# Altium footprint library CHIP_SMD.PcbLib: 26 footprints (part 2 of 2)
Each footprint in its own frame and in the unit in brackets; x right, y up, seen from the top. Pads: shape width x height; smd on the part's side, far side on the other; paste and mask are expansions set on the pad; w line width, h text height; cw(c..) or ccw(c..) is an arc to the next point about the centre after c.
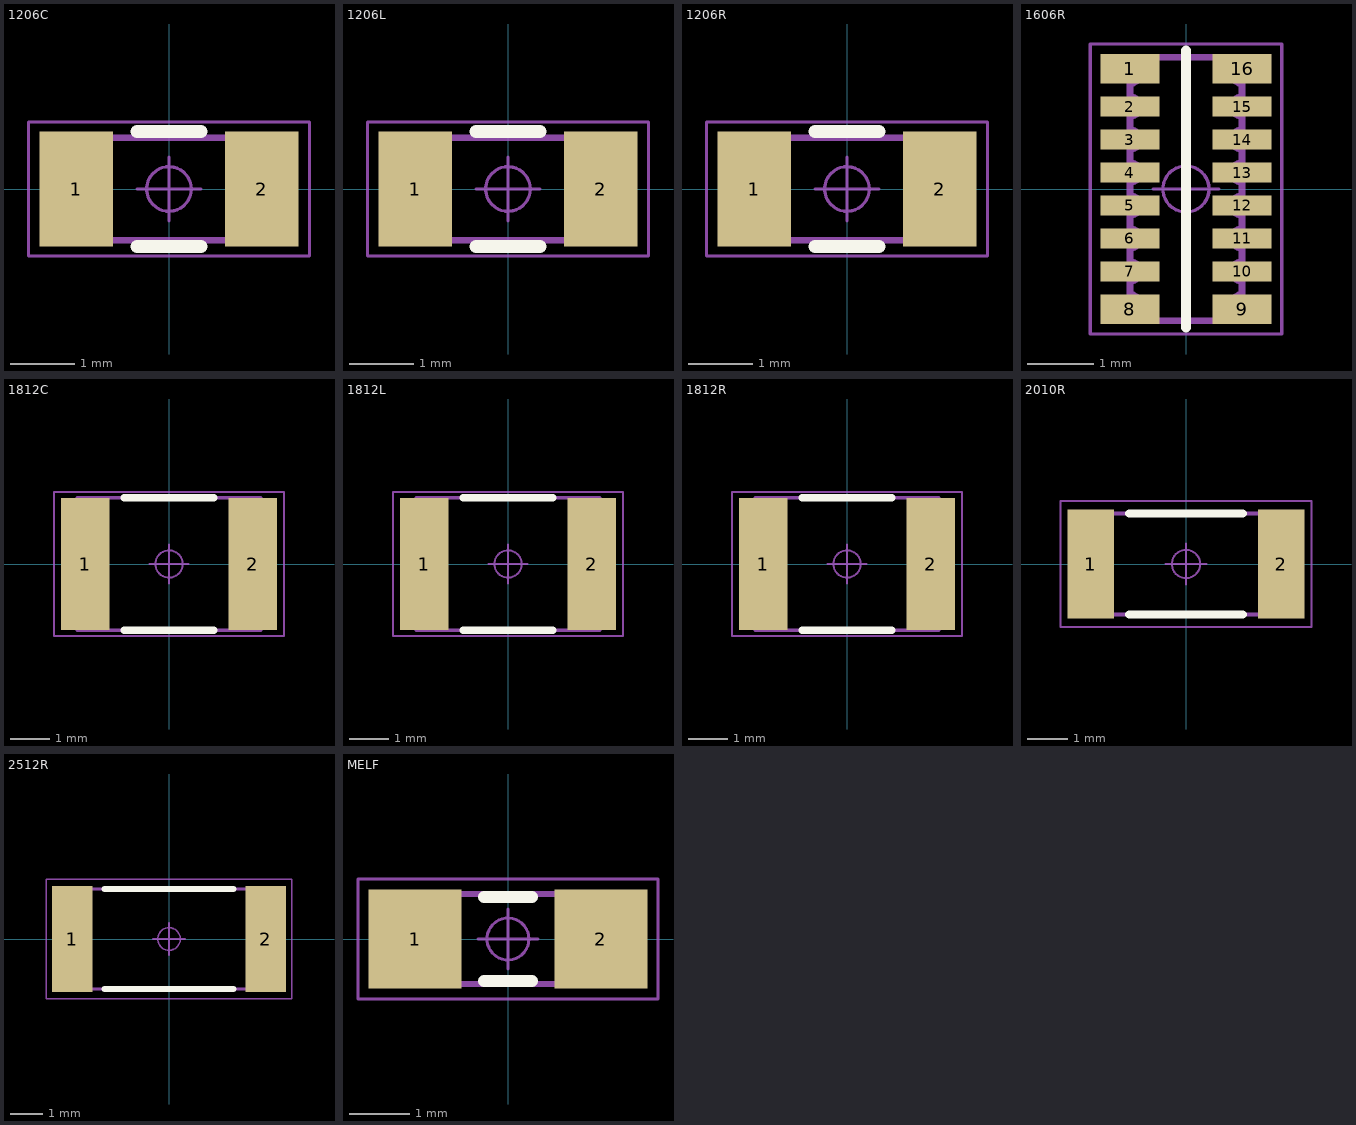
[diagram p1: the footprints below, top view; thin cyan lines are the x and y axes]

## 1206C [mm] "Chip Resistor, EIA 1206, Metric 3216, Body 3.2x1.6mm, IPC Medium Density"
height 0.7
pads (2):
  rect 1.15x1.8 smd: 1(-1.45,0) 2(1.45,0)
Top Overlay:
  lines w0.2: -0.5,-0.9 0.5,-0.9 ; -0.5,0.9 0.5,0.9
Mechanical 14:
  lines w0.1: -1.6,-0.8 1.6,-0.8 1.6,0.8 -1.6,0.8 -1.6,-0.8
  text ".Designator" at -0.85,-0.3 h0.6
Mechanical 15:
  circle w0.05: c0,0 r0.35
  lines w0.05: -0.5,0 0.5,0 ; 0,-0.5 0,0.5 ; -2.2,-1.05 2.2,-1.05 2.2,1.05 -2.2,1.05 -2.2,-1.05
3D body "CAPC3216X94N.stp": height 0.94, standoff 0, extent -1.7,-0.9 1.7,0.9

## 1206L [mm] "Chip Resistor, EIA 1206, Metric 3216, Body 3.2x1.6mm, IPC Medium Density"
height 0.7
pads (2):
  rect 1.15x1.8 smd: 1(-1.45,0) 2(1.45,0)
Top Overlay:
  lines w0.2: -0.5,-0.9 0.5,-0.9 ; -0.5,0.9 0.5,0.9
Mechanical 14:
  lines w0.1: -1.6,-0.8 -1.6,0.8 1.6,0.8 1.6,-0.8 -1.6,-0.8
  text ".Designator" at -0.85,-0.3 h0.6
Mechanical 15:
  circle w0.05: c0,0 r0.35
  lines w0.05: -0.5,0 0.5,0 ; 0,-0.5 0,0.5 ; -2.2,-1.05 -2.2,1.05 2.2,1.05 2.2,-1.05 -2.2,-1.05
3D body "L1206.step": height 1.15, standoff 0, extent -1.6,-0.825 1.6,0.775

## 1206R [mm] "Chip Resistor, EIA 1206, Metric 3216, Body 3.2x1.6mm, IPC Medium Density"
height 0.7
pads (2):
  rect 1.15x1.8 smd: 1(-1.45,0) 2(1.45,0)
Top Overlay:
  lines w0.2: -0.5,-0.9 0.5,-0.9 ; -0.5,0.9 0.5,0.9
Mechanical 14:
  lines w0.1: -1.6,-0.8 1.6,-0.8 1.6,0.8 -1.6,0.8 -1.6,-0.8
  text ".Designator" at -0.85,-0.3 h0.6
Mechanical 15:
  circle w0.05: c0,0 r0.35
  lines w0.05: -0.5,0 0.5,0 ; 0,-0.5 0,0.5 ; -2.2,-1.05 2.2,-1.05 2.2,1.05 -2.2,1.05 -2.2,-1.05
3D body "RESC3216X70N.stp": height 0.7, standoff 0, extent -1.7,-0.9 1.7,0.9

## 1606R [mm] "Chip Array, Concave, 16-Leads, Pitch 0,50mm,  Body 4,00x1,60mm,  IPC Medium Density"
height 0.45
pads (16):
  rect 0.9x0.45 smd: 1(-0.85,1.825) 8(-0.85,-1.825) 9(0.85,-1.825) 16(0.85,1.825)
  rect 0.9x0.3 smd: 2(-0.85,1.25) 3(-0.85,0.75) 4(-0.85,0.25) 5(-0.85,-0.25) 6(-0.85,-0.75) 7(-0.85,-1.25) 10(0.85,-1.25) 11(0.85,-0.75) 12(0.85,-0.25) 13(0.85,0.25) 14(0.85,0.75) 15(0.85,1.25)
Top Overlay:
  lines w0.15: 0,-2.1 0,2.1
Mechanical 14:
  lines w0.1: -0.85,-2 0.85,-2 ; -0.85,-2 -0.85,-1.9 ccw(c-0.85,-1.75) -0.85,-1.6 -0.85,-1.4 ccw(c-0.85,-1.25) -0.85,-1.1 -0.85,-0.9 ccw(c-0.85,-0.75) -0.85,-0.6 -0.85,-0.4 ccw(c-0.85,-0.25) -0.85,-0.1 -0.85,0.1 ccw(c-0.85,0.25) -0.85,0.4 -0.85,0.6 ccw(c-0.85,0.75) -0.85,0.9 -0.85,1.1 ccw(c-0.85,1.25) -0.85,1.4 -0.85,1.6 ccw(c-0.85,1.75) -0.85,1.9 -0.85,2 ; -0.85,-2 0.85,-2 ; -0.85,2 0.85,2 ; -0.85,2 0.85,2 ; 0.85,-2 0.85,-1.9 cw(c0.85,-1.75) 0.85,-1.6 0.85,-1.4 cw(c0.85,-1.25) 0.85,-1.1 0.85,-0.9 cw(c0.85,-0.75) 0.85,-0.6 0.85,-0.4 cw(c0.85,-0.25) 0.85,-0.1 0.85,0.1 cw(c0.85,0.25) 0.85,0.4 0.85,0.6 cw(c0.85,0.75) 0.85,0.9 0.85,1.1 cw(c0.85,1.25) 0.85,1.4 0.85,1.6 cw(c0.85,1.75) 0.85,1.9 0.85,2
  text ".Designator" at 0.35,-1.55 h0.7
Mechanical 15:
  circle w0.05: c0,0 r0.35
  lines w0.05: -0.5,0 0.5,0 ; 0,-0.5 0,0.5 ; -1.45,-2.2 -1.45,2.2 1.45,2.2 1.45,-2.2 -1.45,-2.2
3D body "CAC-50P400X160-16N.step": height 0.45, standoff 0, extent -0.85,-2 0.85,2

## 1812C [mm] "Chip Resistor, EIA 1812, Metric 4532, 2-Leads, Body 4.5x3.2mm, IPC Medium Density"
height 0.7
pads (2):
  rect 1.25x3.4 smd: 1(-2.15,0) 2(2.15,0)
Top Overlay:
  lines w0.2: -1.15,-1.7 1.15,-1.7 ; -1.15,1.7 1.15,1.7
Mechanical 14:
  lines w0.1: -2.35,-1.7 2.35,-1.7 2.35,1.7 -2.35,1.7 -2.35,-1.7
  text ".Designator" at -1.7,-0.45 h1
Mechanical 15:
  circle w0.05: c0,0 r0.35
  lines w0.05: -0.5,0 0.5,0 ; 0,-0.5 0,0.5 ; -2.95,-1.85 2.95,-1.85 2.95,1.85 -2.95,1.85 -2.95,-1.85
3D body "CAPC4532X110N.stp": height 1.1, standoff 0, extent -2.25,-1.6 2.25,1.6

## 1812L [mm] "Chip Resistor, EIA 1812, Metric 4532, 2-Leads, Body 4.5x3.2mm, IPC Medium Density"
height 0.7
pads (2):
  rect 1.25x3.4 smd: 1(-2.15,0) 2(2.15,0)
Top Overlay:
  lines w0.2: -1.15,-1.7 1.15,-1.7 ; -1.15,1.7 1.15,1.7
Mechanical 14:
  lines w0.1: -2.35,-1.7 -2.35,1.7 2.35,1.7 2.35,-1.7 -2.35,-1.7
  text ".Designator" at -1.7,-0.45 h1
Mechanical 15:
  circle w0.05: c0,0 r0.35
  lines w0.05: -0.5,0 0.5,0 ; 0,-0.5 0,0.5 ; -2.95,-1.85 -2.95,1.85 2.95,1.85 2.95,-1.85 -2.95,-1.85
3D body "L1812.step": height 2.5, standoff 0, extent -2.25,-1.6 2.25,1.6

## 1812R [mm] "Chip Resistor, EIA 1812, Metric 4532, 2-Leads, Body 4.5x3.2mm, IPC Medium Density"
height 0.7
pads (2):
  rect 1.25x3.4 smd: 1(-2.15,0) 2(2.15,0)
Top Overlay:
  lines w0.2: -1.15,-1.7 1.15,-1.7 ; -1.15,1.7 1.15,1.7
Mechanical 14:
  lines w0.1: -2.35,-1.7 2.35,-1.7 2.35,1.7 -2.35,1.7 -2.35,-1.7
  text ".Designator" at -1.7,-0.45 h1
Mechanical 15:
  circle w0.05: c0,0 r0.35
  lines w0.05: -0.5,0 0.5,0 ; 0,-0.5 0,0.5 ; -2.95,-1.85 -2.95,1.85 2.95,1.85 2.95,-1.85 -2.95,-1.85
3D body "RESC4532X70N.stp": height 0.7, standoff 0, extent -2.35,-1.7 2.35,1.7

## 2010R [mm] "Resistor, Chip; 5mm L X 2.5mm W X 0.65mm H, IPC Medium Density"
height 0.65
pads (2):
  rect 1.15x2.7 smd: 1(-2.35,0) 2(2.35,0)
Top Overlay:
  lines w0.2: -1.4,-1.25 1.4,-1.25 ; -1.4,1.25 1.4,1.25
Mechanical 14:
  lines w0.1: -2.5,-1.25 2.5,-1.25 2.5,1.25 -2.5,1.25 -2.5,-1.25
  text ".Designator" at -1.85,-0.45 h1
Mechanical 15:
  circle w0.05: c0,0 r0.35
  lines w0.05: -0.5,0 0.5,0 ; 0,-0.5 0,0.5 ; -3.1,-1.55 3.1,-1.55 3.1,1.55 -3.1,1.55 -3.1,-1.55
3D body "RESC5025X65N.stp": height 0.65, standoff 0, extent -2.55,-1.325 2.55,1.325

## 2512R [mm] "Chip Resistor, EIA 2512, Metric 6331, 2-Leads, Body 6.3x3.1mm, IPC Medium Density"
height 0.75
pads (2):
  rect 1.25x3.3 smd: 1(-3,0) 2(3,0)
Top Overlay:
  lines w0.2: -2,-1.55 2,-1.55 ; -2,1.55 2,1.55
Mechanical 14:
  lines w0.1: -3.15,-1.55 3.15,-1.55 3.15,1.55 -3.15,1.55 -3.15,-1.55
  text ".Designator" at -2.25,-0.45 h1
Mechanical 15:
  circle w0.05: c0,0 r0.35
  lines w0.05: -0.5,0 0.5,0 ; 0,-0.5 0,0.5 ; -3.8,-1.85 3.8,-1.85 3.8,1.85 -3.8,1.85 -3.8,-1.85
3D body "RESC6331X75N.stp": height 0.75, standoff 0, extent -3.25,-1.625 3.25,1.625

## MELF [mm] "MELF Resistor, 2-Leads, Body 3.6x1.4mm, IPC Medium Density"
height 1.5
pads (2):
  rect 1.55x1.65 smd: 1(-1.55,0) 2(1.55,0)
Top Overlay:
  lines w0.2: -0.4,-0.7 0.4,-0.7 ; -0.4,0.7 0.4,0.7
Mechanical 14:
  lines w0.1: -1.9,-0.75 -1.9,0.75 1.9,0.75 1.9,-0.75 -1.9,-0.75
  text ".Designator" at -1.55,-0.25 h0.6
Mechanical 15:
  circle w0.05: c0,0 r0.35
  lines w0.05: -0.5,0 0.5,0 ; 0,-0.5 0,0.5 ; -2.5,-1 -2.5,1 2.5,1 2.5,-1 -2.5,-1
3D body "RESMELF3614N.stp": height 1.5, standoff 0, extent -1.9,-0.75 1.9,0.75